# Altium schematic symbol library ESD_Bourns_ CDNBS08-SRDA05-4_5V.SchLib: 1 symbol
Pins are listed as number, name and electrical type; pins without a type are passive.

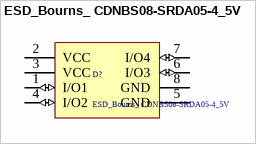
[diagram p0: symbol ESD_Bourns_ CDNBS08-SRDA05-4_5V]

## ESD_Bourns_ CDNBS08-SRDA05-4_5V
designator D?
ESD Suppressors / TVS Diodes SO-8 5V 500W Low Capacitance; Supplier Part Number 1: 652-CDNBS08-SRDA05-4; Supplier 1: Mouser
footprint ESD_Bourns_ CDNBS08-SRDA05-4_5V
pins: 1 I/O1 (io) "input/output 1", 2 VCC (power) "supply voltage", 3 VCC (power) "supply voltage", 4 I/O2 (io) "input/output 1", 5 GND (power) "ground", 6 I/O3 (io) "input/output 2", 7 I/O4 (io) "input/output 2", 8 GND (power) "ground"